# EAGLE library part MOTOR_N20_BOTTON (library Motor N20)
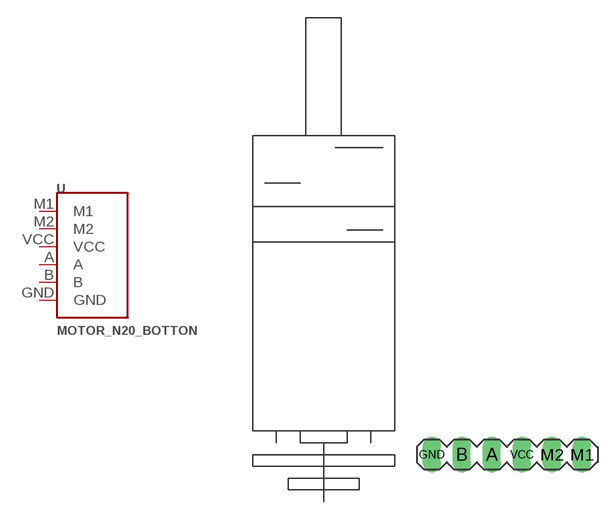
[diagram p2: symbol with the pads of MOTOR_N20_ENCODER_LEFT; footprint MOTOR_N20_ENCODER_LEFT]

Designator prefix -

## MOTOR_N20_BOTTON  [MOTOR_N20_ENCODER_LEFT]
A  A
B  B
GND  GND
M1  M1
M2  M2
VCC  VCC

## Footprint MOTOR_N20_ENCODER_LEFT (pad centres in mm)
drill 1.016 long: A 14.24,-2; B 11.7,-2; GND 9.16,-2; M1 21.86,-2; M2 19.32,-2; VCC 16.78,-2